# Altium schematic symbol library FUSE.SchLib: 2 symbols
Pins are listed as number, name and electrical type; pins without a type are passive.

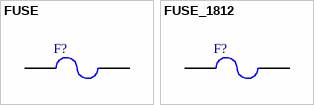
[diagram p0: symbols FUSE to FUSE_1812]

## FUSE
designator F?, comment 30A  (value not drawn)
Fuse_GF-C40; Published: 8-Jun-2000; LatestRevisionDate: 17-Jul-2002; LatestRevisionNote: Re-released for DXP Platform.; PackageReference: PIN-W2/E2.8; Publisher: Altium Limited; ComponentLink1Description: 产品网络链接; ComponentLink1URL: http://www.fuse111.com/product.asp?plt=130&pone=7
footprint FUSE_GF-C40
pins: 1, 2

## FUSE_1812
designator F?, comment 1.5A  (value not drawn)
贴片保险丝150; Published: 8-Jun-2000; LatestRevisionDate: 17-Jul-2002; LatestRevisionNote: Re-released for DXP Platform.; PackageReference: PIN-W2/E2.8; Publisher: Altium Limited; ComponentLink1Description: 网络链接; ComponentLink1URL: http://item.szlcsc.com/146673.html
footprint 1812_L
pins: 1, 2